# Altium schematic symbol library PV36.SchLib: 1 symbol
Pins are listed as number, name and electrical type; pins without a type are passive.

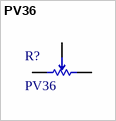
[diagram p0: symbol PV36]

## PV36
designator R?
Trimmer Potentiometers - Lead Sealed Type Multiturn PV36 Series
footprint PV36W
footprint PV36X
footprint PV36Y
footprint PV36Z
pins: 1, 2, 3